# Altium footprint library JST SM04B-SRSS-TB.PCBLIB: 1 footprints
Each footprint in its own frame and in the unit in brackets; x right, y up, seen from the top. Pads: shape width x height; smd on the part's side, far side on the other; paste and mask are expansions set on the pad; w line width, h text height; cw(c..) or ccw(c..) is an arc to the next point about the centre after c.
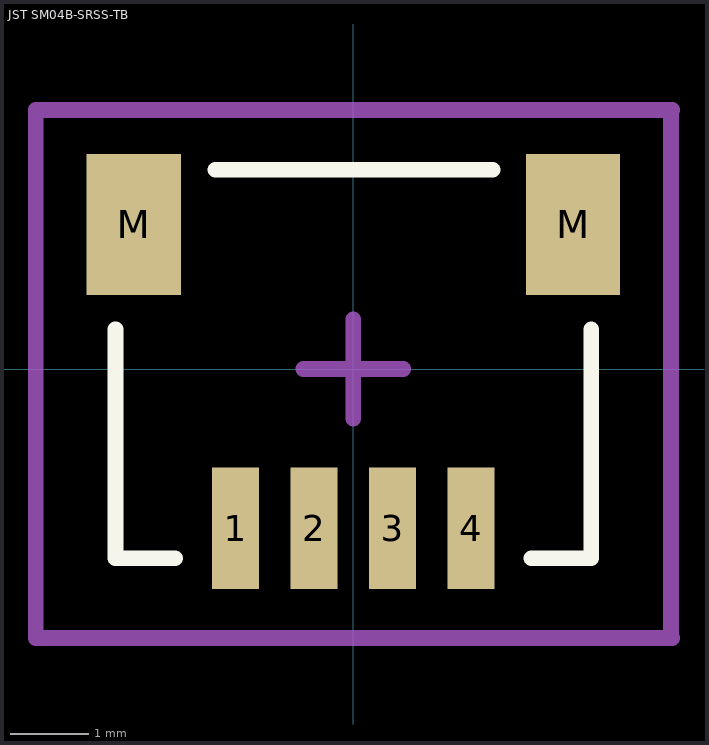
[diagram p0: the footprint, top view; thin cyan lines are the x and y axes]

## JST SM04B-SRSS-TB [mm] "1.0mm pitch/Disconnectable Crimp style connector"
height 2.95
pads (6):
  rect 0.6x1.55 smd: 1(-1.5,-2.032) 2(-0.5,-2.032) 3(0.5,-2.032) 4(1.5,-2.032)
  rect 1.2x1.8 smd: M(-2.8,1.843) M(2.8,1.843)
Top Overlay:
  lines w0.2: -3.032,0.508 -3.032,-2.413 -2.27,-2.413 ; -1.762,2.54 1.778,2.54 ; 2.27,-2.413 3.032,-2.413 3.032,0.508
Mechanical 15:
  lines w0.2: -0.635,0 0.635,0 ; 0,-0.635 0,0.635 ; 4.048,-3.429 4.048,3.302 ; 4.064,-3.429 -4.048,-3.429 -4.048,3.302 4.064,3.302
3D body "JST SM04B-SRSS-TB.STEP": height 2.95, standoff -0.01, extent -3,-2.383 3,2.567